# EAGLE library part MS2106 (library LARS_409_VIDEO_IC)
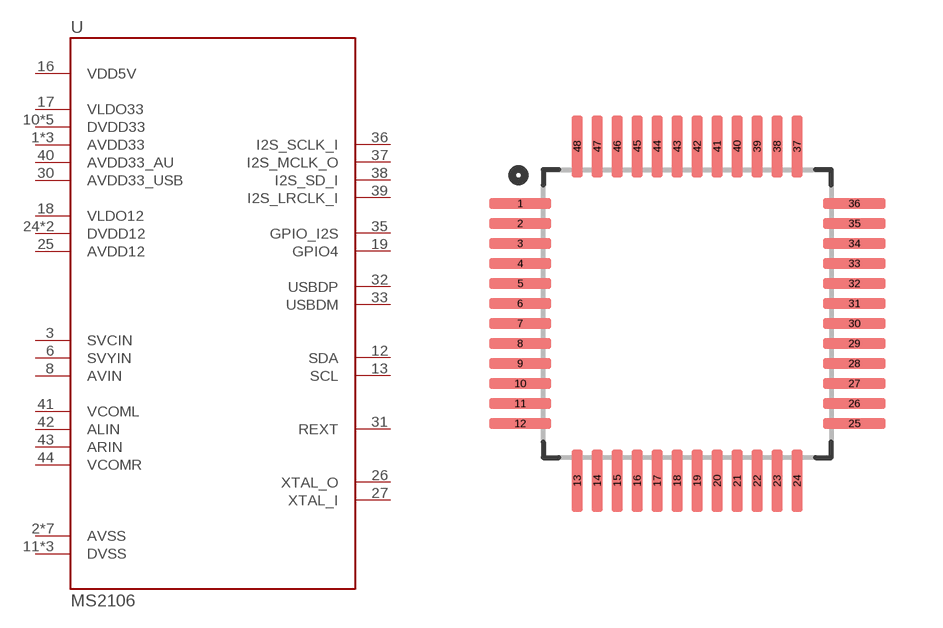
[diagram p0: symbol with the pads of LQFP48; footprint LQFP48]

Designator prefix U

## MS2106  [LQFP48]
1  AVDD33
2  AVSS  pwr
3  SVCIN
4  AVDD33
5  AVSS  pwr
6  SVYIN
7  AVDD33
8  AVIN
9  AVSS  pwr
10  DVDD33
11  DVSS  pwr
12  SDA
13  SCL
14  DVDD33
15  AVSS  pwr
16  VDD5V
17  VLDO33  in
18  VLDO12  in
19  GPIO4
20  DVDD33
21  DVSS  pwr
24  DVDD12
25  AVDD12
26  XTAL_O
27  XTAL_I
28  AVSS  pwr
29  AVSS  pwr
30  AVDD33_USB
31  REXT
32  USBDP
33  USBDM
34  DVDD33
35  GPIO_I2S
36  I2S_SCLK_I
37  I2S_MCLK_O
38  I2S_SD_I
39  I2S_LRCLK_I
40  AVDD33_AU
41  VCOML
42  ALIN
43  ARIN
44  VCOMR
45  AVSS  pwr
46  DVDD33
47  DVSS  pwr
48  DVDD12

## Footprint LQFP48 (pad centres in mm)
smd 1.56 x 0.28: 1 -4.18,2.75; 2 -4.18,2.25; 3 -4.18,1.75; 4 -4.18,1.25; 5 -4.18,0.75; 6 -4.18,0.25; 7 -4.18,-0.25; 8 -4.18,-0.75; 9 -4.18,-1.25; 10 -4.18,-1.75; 11 -4.18,-2.25; 12 -4.18,-2.75; 25 4.18,-2.75; 26 4.18,-2.25; 27 4.18,-1.75; 28 4.18,-1.25; 29 4.18,-0.75; 30 4.18,-0.25; 31 4.18,0.25; 32 4.18,0.75; 33 4.18,1.25; 34 4.18,1.75; 35 4.18,2.25; 36 4.18,2.75
smd 0.28 x 1.56: 13 -2.75,-4.18; 14 -2.25,-4.18; 15 -1.75,-4.18; 16 -1.25,-4.18; 17 -0.75,-4.18; 18 -0.25,-4.18; 19 0.25,-4.18; 20 0.75,-4.18; 21 1.25,-4.18; 22 1.75,-4.18; 23 2.25,-4.18; 24 2.75,-4.18; 37 2.75,4.18; 38 2.25,4.18; 39 1.75,4.18; 40 1.25,4.18; 41 0.75,4.18; 42 0.25,4.18; 43 -0.25,4.18; 44 -0.75,4.18; 45 -1.25,4.18; 46 -1.75,4.18; 47 -2.25,4.18; 48 -2.75,4.18